# Altium schematic symbol library TLC5973D.SchLib: 1 symbol
Pins are listed as number, name and electrical type; pins without a type are passive.

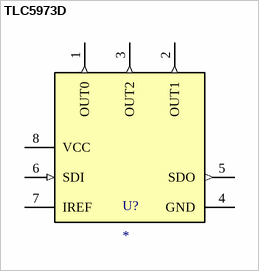
[diagram p0: symbol TLC5973D]

## TLC5973D
designator U?
No Description Available; Mfr_Name: Texas Instruments; TYPE: TYPE; RefDes: RefDes
footprint D0008A_M
pins: 1 OUT0 (out), 2 OUT1 (out), 3 OUT2 (out), 4 GND (power), 5 SDO (out), 6 SDI (in), 7 IREF, 8 VCC (power)